# EAGLE library part ATMEGA32U4-AUR (library ATMEGA32U4-AUR)
ATmega Series 16 MHz 32 KB Flash 2.5 KB SRAM 8-Bit Microcontroller - TQFP-44
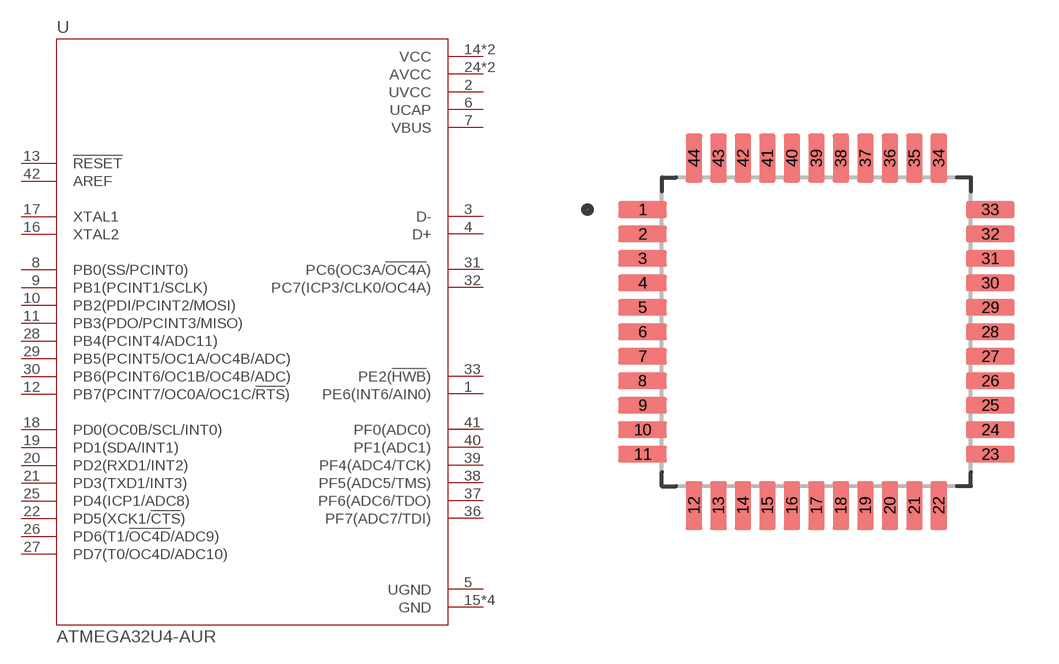
[diagram p0: symbol with the pads of QFP80P1200X1200X120-44N; footprint QFP80P1200X1200X120-44N]

Designator prefix U

## ATMEGA32U4-AUR (Availability: Unavailable; Description: ATmega Series 16 MHz 32 KB Flash 2.5 KB SRAM 8-Bit Microcontroller - TQFP-44; MF: Microchip; MP: ATMEGA32U4-AUR; Package: TQFP-44 Microchip; Price: None)  [QFP80P1200X1200X120-44N]
1  PE6(INT6/AIN0)
2  UVCC  pwr
3  D-
4  D+
5  UGND  pwr
6  UCAP  pwr
7  VBUS  pwr
8  PB0(SS/PCINT0)
9  PB1(PCINT1/SCLK)
10  PB2(PDI/PCINT2/MOSI)
11  PB3(PDO/PCINT3/MISO)
12  PB7(PCINT7/OC0A/OC1C/!RTS!)
13  !RESET  in
14  VCC  pwr
15  GND  pwr
16  XTAL2  out
17  XTAL1  in
18  PD0(OC0B/SCL/INT0)
19  PD1(SDA/INT1)
20  PD2(RXD1/INT2)
21  PD3(TXD1/INT3)
22  PD5(XCK1/!CTS!)
23  GND  pwr
24  AVCC  pwr
25  PD4(ICP1/ADC8)
26  PD6(T1/!OC4D!/ADC9)
27  PD7(T0/OC4D/ADC10)
28  PB4(PCINT4/ADC11)
29  PB5(PCINT5/OC1A/OC4B/ADC)
30  PB6(PCINT6/OC1B/OC4B/ADC)
31  PC6(OC3A/!OC4A!)
32  PC7(ICP3/CLK0/OC4A)
33  PE2(!HWB!)
34  VCC  pwr
35  GND  pwr
36  PF7(ADC7/TDI)
37  PF6(ADC6/TDO)
38  PF5(ADC5/TMS)
39  PF4(ADC4/TCK)
40  PF1(ADC1)
41  PF0(ADC0)
42  AREF  in
43  GND  pwr
44  AVCC  pwr

## Footprint QFP80P1200X1200X120-44N (pad centres in mm)
smd 1.6 x 0.55: 1 -5.68,4; 2 -5.68,3.2; 3 -5.68,2.4; 4 -5.68,1.6; 5 -5.68,0.8; 6 -5.68,0; 7 -5.68,-0.8; 8 -5.68,-1.6; 9 -5.68,-2.4; 10 -5.68,-3.2; 11 -5.68,-4; 23 5.68,-4; 24 5.68,-3.2; 25 5.68,-2.4; 26 5.68,-1.6; 27 5.68,-0.8; 28 5.68,0; 29 5.68,0.8; 30 5.68,1.6; 31 5.68,2.4; 32 5.68,3.2; 33 5.68,4
smd 0.55 x 1.6: 12 -4,-5.68; 13 -3.2,-5.68; 14 -2.4,-5.68; 15 -1.6,-5.68; 16 -0.8,-5.68; 17 0,-5.68; 18 0.8,-5.68; 19 1.6,-5.68; 20 2.4,-5.68; 21 3.2,-5.68; 22 4,-5.68; 34 4,5.68; 35 3.2,5.68; 36 2.4,5.68; 37 1.6,5.68; 38 0.8,5.68; 39 0,5.68; 40 -0.8,5.68; 41 -1.6,5.68; 42 -2.4,5.68; 43 -3.2,5.68; 44 -4,5.68